# EAGLE library part 2-794681-0 (library matt con-amp)
Micro MATE-N-LOK Connectors grid 1.5mm Dual Row Through Hole Vertical Metal Through Hole Holddowns Source: ENG_CD_794681_E.pdf
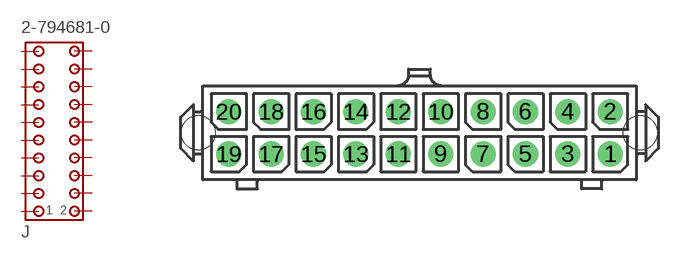
[diagram p161: symbol with the pads of 2-794681-0; footprint 2-794681-0]

Designator prefix J

## 2-794681-0  [2-794681-0]
1  1  pas
2  2  pas
3  3  pas
4  4  pas
5  5  pas
6  6  pas
7  7  pas
8  8  pas
9  9  pas
10  10  pas
11  11  pas
12  12  pas
13  13  pas
14  14  pas
15  15  pas
16  16  pas
17  17  pas
18  18  pas
19  19  pas
20  20  pas

## Footprint 2-794681-0 (pad centres in mm)
Micro MATE-N-LOK Connectors grid 1.5mm Dual Row Through Hole Vertical Metal Through Hole Holddowns Source: ENG_CD_794681_E.pdf
drill 1 pad 1.778 round: 1 13.5,-1.5; 2 13.5,1.5; 3 10.5,-1.5; 4 10.5,1.5; 5 7.5,-1.5; 6 7.5,1.5; 7 4.5,-1.5; 8 4.5,1.5; 9 1.5,-1.5; 10 1.5,1.5; 11 -1.5,-1.5; 12 -1.5,1.5; 13 -4.5,-1.5; 14 -4.5,1.5; 15 -7.5,-1.5; 16 -7.5,1.5; 17 -10.5,-1.5; 18 -10.5,1.5; 19 -13.5,-1.5; 20 -13.5,1.5
hole 2.4 at 15.63,0
hole 2.4 at -15.67,0